# EAGLE library part WL-SMTW_5050 (library Wurth_LEDs_WL-SMTW)
WL-SMTW SMT Mono-color TOP LED Waterclear Characteristics Low energy consumption High reliability Low current requirement Fast switching No UV/IR radiation Slim Miniature size Flexibility in design Top view LED PLCC 2 white package Compact package outline, ideal for miniature applications Variety of colors Applications Signage and indirect illumination Flat lamp Indicator and backlight in telecommunication Consumer application: dash-board, telephone or A/V equipments Flat backlight for LCDs, switches and symbols Optical indicators Indoor and outdoor displays Scanner Backlight in LCD, cellular phones, switches, keys, displays lluminated advertising, panel Lighting device: indicator, general lighting Camera flash, hand carrier flash Coupling into light guides <https://www.we-online.com/catalog/media/o14908v209%20WL-SMTW_150285BSxxx.jpg> Details see: www.we-online.com/catalog/WL-SMTW <www.we-online.com/catalog/WL-SMTW/?utm_source=eagle_model&utm_medium=description_link&utm_campaign=eisos_eagle> Updated by Ella 2022-11-09 2022(C) Wurth Elektronik
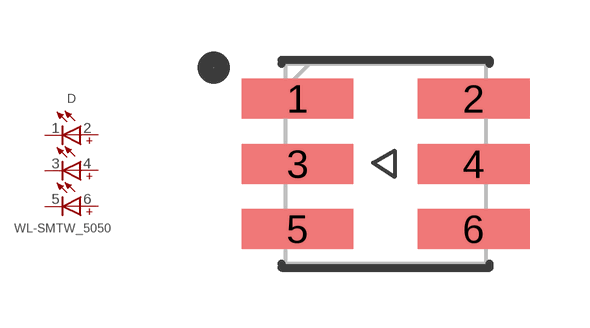
[diagram p0: symbol with the pads of WL-SMTW_5050; footprint WL-SMTW_5050]

Designator prefix D

## WL-SMTW_5050_150505BS73300 (CHIP-TECHNOLOGY: InGaN; DATASHEET-URL: https://www.we-online.com/redexpert/spec/150505BS73300?ae; DOMINANT-WAVELENGTH: 470nm; EMITTING-COLOR: Blue; FORWARD-VOLTAGE: 3.3V; LUMINOUS-INTENSITY: 1000mcd; MOUNT: SMT; PART-NUMBER: 150505BS73300; PEAK-WAVELENGTH: 465nm; VALUE: 150505BS73300; VIEWING-ANGLE: 120°), WL-SMTW_5050_150505GS73300 (CHIP-TECHNOLOGY: InGaN; DATASHEET-URL: https://www.we-online.com/redexpert/spec/150505GS73300?ae; DOMINANT-WAVELENGTH: 525nm; EMITTING-COLOR: Green; FORWARD-VOLTAGE: 3.1V; LUMINOUS-INTENSITY: 4300mcd; MOUNT: SMT; PART-NUMBER: 150505GS73300; PEAK-WAVELENGTH: 515nm; VALUE: 150505GS73300; VIEWING-ANGLE: 120°), WL-SMTW_5050_150505RS73300 (CHIP-TECHNOLOGY: AlInGaP; DATASHEET-URL: https://www.we-online.com/redexpert/spec/150505RS73300?ae; DOMINANT-WAVELENGTH: 625nm; EMITTING-COLOR: Red; FORWARD-VOLTAGE: 2V; LUMINOUS-INTENSITY: 2300mcd; MOUNT: SMT; PART-NUMBER: 150505RS73300; PEAK-WAVELENGTH: 630nm; VALUE: 150505RS73300; VIEWING-ANGLE: 120°), WL-SMTW_5050_150505YS73300 (CHIP-TECHNOLOGY: AlInGaP; DATASHEET-URL: https://www.we-online.com/redexpert/spec/150505YS73300?ae; DOMINANT-WAVELENGTH: 590nm; EMITTING-COLOR: Yellow; FORWARD-VOLTAGE: 2V; LUMINOUS-INTENSITY: 2400mcd; MOUNT: SMT; PART-NUMBER: 150505YS73300; PEAK-WAVELENGTH: 592nm; VALUE: 150505YS73300; VIEWING-ANGLE: 120°)  [WL-SMTW_5050]
1  1  pas
2  2  pas
3  3  pas
4  4  pas
5  5  pas
6  6  pas

## Footprint WL-SMTW_5050 (pad centres in mm)
WL-SMTW SMT Mono-color TOP LED Waterclear Size:5050, SMT, 6pins 5.4x5x1.6mm(LXWXH)
smd 2.8 x 1: 1 -2.2,1.63; 2 2.2,1.63; 3 -2.2,0; 4 2.2,0; 5 -2.2,-1.63; 6 2.2,-1.63